# Altium schematic symbol library ITR-8307.SchLib: 1 symbol
Pins are listed as number, name and electrical type; pins without a type are passive.

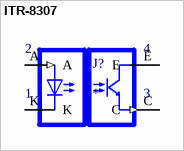
[diagram p0: symbol ITR-8307]

## ITR-8307
designator J?
Optical Switches, Reflective, Phototransistor Output Opto Interrupter; MF: Everlight; SnapEDA_Link: https://www.snapeda.com/parts/ITR-8307/Everlight/view-part/5697649/?ref=snap; Price: None; Availability: Not in stock; Value: *; Check_prices: https://www.snapeda.com/parts/ITR-8307/Everlight/view-part/5697649/?ref=eda; MP: ITR-8307; Package: None
footprint ZSK_FBP_SVAS_BACK_TO_BACK_HOR
pins: A (in), C (out), E (power), K (power)
text: 2; 4; 1; 3